# Altium footprint library con-pc104.PCBLIB: 5 footprints
Each footprint in its own frame and in the unit in brackets; x right, y up, seen from the top. Pads: shape width x height; smd on the part's side, far side on the other; paste and mask are expansions set on the pad; w line width, h text height; cw(c..) or ccw(c..) is an arc to the next point about the centre after c.
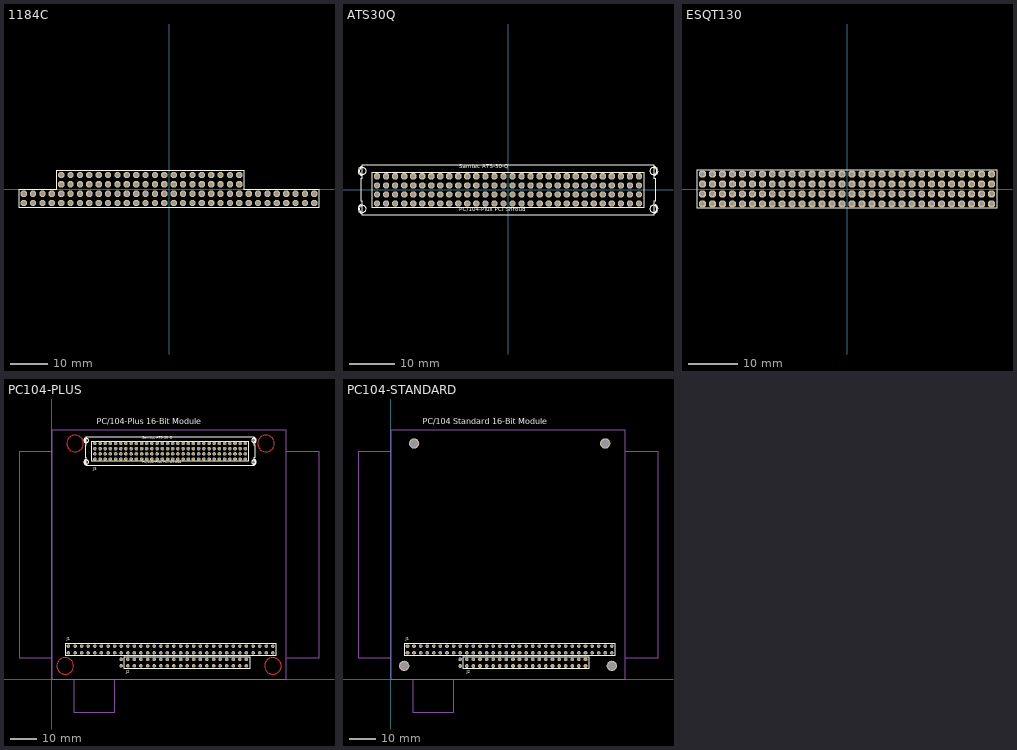
[diagram p0: the footprints below, top view; thin cyan lines are the x and y axes]

## 1184C [mil]
pads (104):
  oct 66x66 hole 44: A1(-1550,-50) A2(-1450,-50) A3(-1350,-50) A4(-1250,-50) A5(-1150,-50) A6(-1050,-50) A7(-950,-50) A8(-850,-50) A9(-750,-50) A10(-650,-50) A11(-550,-50) A12(-450,-50) A13(-350,-50) A14(-250,-50) A15(-150,-50) A16(-50,-50) A17(50,-50) A18(150,-50) A19(250,-50) A20(350,-50) A21(450,-50) A22(550,-50) A23(650,-50) A24(750,-50) A25(850,-50) A26(950,-50) A27(1050,-50) A28(1150,-50) A29(1250,-50) A30(1350,-50) A31(1450,-50) A32(1550,-50) A33(-1150,150) A34(-1050,150) A35(-950,150) A36(-850,150) A37(-750,150) A38(-650,150) A39(-550,150) A40(-450,150) A41(-350,150) A42(-250,150) A43(-150,150) A44(-50,150) A45(50,150) A46(150,150) A47(250,150) A48(350,150) A49(450,150) A50(550,150) A51(650,150) A52(750,150) B1(-1550,-150) B2(-1450,-150) B3(-1350,-150) B4(-1250,-150) B5(-1150,-150) B6(-1050,-150) B7(-950,-150) B8(-850,-150) B9(-750,-150) B10(-650,-150) B11(-550,-150) B12(-450,-150) B13(-350,-150) B14(-250,-150) B15(-150,-150) B16(-50,-150) B17(50,-150) B18(150,-150) B19(250,-150) B20(350,-150) B21(450,-150) B22(550,-150) B23(650,-150) B24(750,-150) B25(850,-150) B26(950,-150) B27(1050,-150) B28(1150,-150) B29(1250,-150) B30(1350,-150) B31(1450,-150) B32(1550,-150) B33(-1150,50) B34(-1050,50) B35(-950,50) B36(-850,50) B37(-750,50) B38(-650,50) B39(-550,50) B40(-450,50) B41(-350,50) B42(-250,50) B43(-150,50) B44(-50,50) B45(50,50) B46(150,50) B47(250,50) B48(350,50) B49(450,50) B50(550,50) B51(650,50) B52(750,50)
Top Overlay:
  lines w10: -1600,-200 1600,-200 1600,0 800,0 800,200 -1200,200 -1200,0 -1600,0 -1600,-200

## ATS30Q [mil]
pads (120):
  oct 55x55 hole 35.43: A1(-1141.73,-118.11) A2(-1062.99,-118.11) A3(-984.25,-118.11) A4(-905.51,-118.11) A5(-826.77,-118.11) A6(-748.03,-118.11) A7(-669.29,-118.11) A8(-590.55,-118.11) A9(-511.81,-118.11) A10(-433.07,-118.11) A11(-354.33,-118.11) A12(-275.59,-118.11) A13(-196.85,-118.11) A14(-118.11,-118.11) A15(-39.37,-118.11) A16(39.37,-118.11) A17(118.11,-118.11) A18(196.85,-118.11) A19(275.59,-118.11) A20(354.33,-118.11) A21(433.07,-118.11) A22(511.81,-118.11) A23(590.55,-118.11) A24(669.29,-118.11) A25(748.03,-118.11) A26(826.77,-118.11) A27(905.51,-118.11) A28(984.25,-118.11) A29(1062.99,-118.11) A30(1141.73,-118.11) B1(-1141.73,-39.37) B2(-1062.99,-39.37) B3(-984.25,-39.37) B4(-905.51,-39.37) B5(-826.77,-39.37) B6(-748.03,-39.37) B7(-669.29,-39.37) B8(-590.55,-39.37) B9(-511.81,-39.37) B10(-433.07,-39.37) B11(-354.33,-39.37) B12(-275.59,-39.37) B13(-196.85,-39.37) B14(-118.11,-39.37) B15(-39.37,-39.37) B16(39.37,-39.37) B17(118.11,-39.37) B18(196.85,-39.37) B19(275.59,-39.37) B20(354.33,-39.37) B21(433.07,-39.37) B22(511.81,-39.37) B23(590.55,-39.37) B24(669.29,-39.37) B25(748.03,-39.37) B26(826.77,-39.37) B27(905.51,-39.37) B28(984.25,-39.37) B29(1062.99,-39.37) B30(1141.73,-39.37) C1(-1141.73,39.37) C2(-1062.99,39.37) C3(-984.25,39.37) C4(-905.51,39.37) C5(-826.77,39.37) C6(-748.03,39.37) C7(-669.29,39.37) C8(-590.55,39.37) C9(-511.81,39.37) C10(-433.07,39.37) C11(-354.33,39.37) C12(-275.59,39.37) C13(-196.85,39.37) C14(-118.11,39.37) C15(-39.37,39.37) C16(39.37,39.37) C17(118.11,39.37) C18(196.85,39.37) C19(275.59,39.37) C20(354.33,39.37) C21(433.07,39.37) C22(511.81,39.37) C23(590.55,39.37) C24(669.29,39.37) C25(748.03,39.37) C26(826.77,39.37) C27(905.51,39.37) C28(984.25,39.37) C29(1062.99,39.37) C30(1141.73,39.37) D1(-1141.73,118.11) D2(-1062.99,118.11) D3(-984.25,118.11) D4(-905.51,118.11) D5(-826.77,118.11) D6(-748.03,118.11) D7(-669.29,118.11) D8(-590.55,118.11) D9(-511.81,118.11) D10(-433.07,118.11) D11(-354.33,118.11) D12(-275.59,118.11) D13(-196.85,118.11) D14(-118.11,118.11) D15(-39.37,118.11) D16(39.37,118.11) D17(118.11,118.11) D18(196.85,118.11) D19(275.59,118.11) D20(354.33,118.11) D21(433.07,118.11) D22(511.81,118.11) D23(590.55,118.11) D24(669.29,118.11) D25(748.03,118.11) D26(826.77,118.11) D27(905.51,118.11) D28(984.25,118.11) D29(1062.99,118.11) D30(1141.73,118.11)
Top Overlay:
  circle w8: c1267,165 r30
  circle w8: c1267,-165 r30
  circle w8: c-1267,-165 r30
  circle w8: c-1267,165 r30
  lines w8: -1270,-205 cw(c-1267.5,-165) -1270,-125 ; -1270,125 cw(c-1267.5,165) -1270,205 ; 1270,-205 ccw(c1267.5,-165) 1270,-125 ; 1270,125 ccw(c1267.5,165) 1270,205 ; -1280,-100 -1268.78,-100 -1268.78,-220.47 1268.78,-220.47 1268.78,-100 1285,-100 1285,100 1268.78,100 1268.78,220.47 -1268.78,220.47 -1268.78,100 -1280,100 -1280,-100 ; -1185.04,-153.54 1185.04,-153.54 1185.04,153.54 -1185.04,153.54 -1185.04,-153.54
  text "Samtec ATS-30-Q" at -425,175 h62
  text "PC/104-Plus PCI Shroud" at -425,-200 h62

## ESQT130 [mil]
pads (120):
  oct 55x55 hole 35.43: A1(-1141.73,-118.11) A2(-1062.99,-118.11) A3(-984.25,-118.11) A4(-905.51,-118.11) A5(-826.77,-118.11) A6(-748.03,-118.11) A7(-669.29,-118.11) A8(-590.55,-118.11) A9(-511.81,-118.11) A10(-433.07,-118.11) A11(-354.33,-118.11) A12(-275.59,-118.11) A13(-196.85,-118.11) A14(-118.11,-118.11) A15(-39.37,-118.11) A16(39.37,-118.11) A17(118.11,-118.11) A18(196.85,-118.11) A19(275.59,-118.11) A20(354.33,-118.11) A21(433.07,-118.11) A22(511.81,-118.11) A23(590.55,-118.11) A24(669.29,-118.11) A25(748.03,-118.11) A26(826.77,-118.11) A27(905.51,-118.11) A28(984.25,-118.11) A29(1062.99,-118.11) A30(1141.73,-118.11) B1(-1141.73,-39.37) B2(-1062.99,-39.37) B3(-984.25,-39.37) B4(-905.51,-39.37) B5(-826.77,-39.37) B6(-748.03,-39.37) B7(-669.29,-39.37) B8(-590.55,-39.37) B9(-511.81,-39.37) B10(-433.07,-39.37) B11(-354.33,-39.37) B12(-275.59,-39.37) B13(-196.85,-39.37) B14(-118.11,-39.37) B15(-39.37,-39.37) B16(39.37,-39.37) B17(118.11,-39.37) B18(196.85,-39.37) B19(275.59,-39.37) B20(354.33,-39.37) B21(433.07,-39.37) B22(511.81,-39.37) B23(590.55,-39.37) B24(669.29,-39.37) B25(748.03,-39.37) B26(826.77,-39.37) B27(905.51,-39.37) B28(984.25,-39.37) B29(1062.99,-39.37) B30(1141.73,-39.37) C1(-1141.73,39.37) C2(-1062.99,39.37) C3(-984.25,39.37) C4(-905.51,39.37) C5(-826.77,39.37) C6(-748.03,39.37) C7(-669.29,39.37) C8(-590.55,39.37) C9(-511.81,39.37) C10(-433.07,39.37) C11(-354.33,39.37) C12(-275.59,39.37) C13(-196.85,39.37) C14(-118.11,39.37) C15(-39.37,39.37) C16(39.37,39.37) C17(118.11,39.37) C18(196.85,39.37) C19(275.59,39.37) C20(354.33,39.37) C21(433.07,39.37) C22(511.81,39.37) C23(590.55,39.37) C24(669.29,39.37) C25(748.03,39.37) C26(826.77,39.37) C27(905.51,39.37) C28(984.25,39.37) C29(1062.99,39.37) C30(1141.73,39.37) D1(-1141.73,118.11) D2(-1062.99,118.11) D3(-984.25,118.11) D4(-905.51,118.11) D5(-826.77,118.11) D6(-748.03,118.11) D7(-669.29,118.11) D8(-590.55,118.11) D9(-511.81,118.11) D10(-433.07,118.11) D11(-354.33,118.11) D12(-275.59,118.11) D13(-196.85,118.11) D14(-118.11,118.11) D15(-39.37,118.11) D16(39.37,118.11) D17(118.11,118.11) D18(196.85,118.11) D19(275.59,118.11) D20(354.33,118.11) D21(433.07,118.11) D22(511.81,118.11) D23(590.55,118.11) D24(669.29,118.11) D25(748.03,118.11) D26(826.77,118.11) D27(905.51,118.11) D28(984.25,118.11) D29(1062.99,118.11) D30(1141.73,118.11)
Top Overlay:
  lines w8: -1185.04,-153.54 1185.04,-153.54 1185.04,153.54 -1185.04,153.54 -1185.04,-153.54
Mechanical 16:
  text "Samtec ESQT-130-02-G-Q-368" at -425,-300 h62
  text "Samtec ESQT-130-03-M-Q-368" at -425,-250 h62
  text "PC/104-Plus PCI Connector" at -425,-200 h62

## PC104-PLUS [mm]
pads (224):
  oct 1.35x1.35 hole 0.9: A1(6.35,10.16) A2(8.89,10.16) A3(11.43,10.16) A4(13.97,10.16) A5(16.51,10.16) A6(19.05,10.16) A7(21.59,10.16) A8(24.13,10.16) A9(26.67,10.16) A10(29.21,10.16) A11(31.75,10.16) A12(34.29,10.16) A13(36.83,10.16) A14(39.37,10.16) A15(41.91,10.16) A16(44.45,10.16) A17(46.99,10.16) A18(49.53,10.16) A19(52.07,10.16) A20(54.61,10.16) A21(57.15,10.16) A22(59.69,10.16) A23(62.23,10.16) A24(64.77,10.16) A25(67.31,10.16) A26(69.85,10.16) A27(72.39,10.16) A28(74.93,10.16) A29(77.47,10.16) A30(80.01,10.16) A31(82.55,10.16) A32(85.09,10.16) B1(6.35,12.7) B2(8.89,12.7) B3(11.43,12.7) B4(13.97,12.7) B5(16.51,12.7) B6(19.05,12.7) B7(21.59,12.7) B8(24.13,12.7) B9(26.67,12.7) B10(29.21,12.7) B11(31.75,12.7) B12(34.29,12.7) B13(36.83,12.7) B14(39.37,12.7) B15(41.91,12.7) B16(44.45,12.7) B17(46.99,12.7) B18(49.53,12.7) B19(52.07,12.7) B20(54.61,12.7) B21(57.15,12.7) B22(59.69,12.7) B23(62.23,12.7) B24(64.77,12.7) B25(67.31,12.7) B26(69.85,12.7) B27(72.39,12.7) B28(74.93,12.7) B29(77.47,12.7) B30(80.01,12.7) B31(82.55,12.7) B32(85.09,12.7) C0(26.67,7.62) C1(29.21,7.62) C2(31.75,7.62) C3(34.29,7.62) C4(36.83,7.62) C5(39.37,7.62) C6(41.91,7.62) C7(44.45,7.62) C8(46.99,7.62) C9(49.53,7.62) C10(52.07,7.62) C11(54.61,7.62) C12(57.15,7.62) C13(59.69,7.62) C14(62.23,7.62) C15(64.77,7.62) C16(67.31,7.62) C17(69.85,7.62) C18(72.39,7.62) C19(74.93,7.62) D0(26.67,5.08) D1(29.21,5.08) D2(31.75,5.08) D3(34.29,5.08) D4(36.83,5.08) D5(39.37,5.08) D6(41.91,5.08) D7(44.45,5.08) D8(46.99,5.08) D9(49.53,5.08) D10(52.07,5.08) D11(54.61,5.08) D12(57.15,5.08) D13(59.69,5.08) D14(62.23,5.08) D15(64.77,5.08) D16(67.31,5.08) D17(69.85,5.08) D18(72.39,5.08) D19(74.93,5.08) J3-A1(16.51,84.805) J3-A2(18.51,84.805) J3-A3(20.51,84.805) J3-A4(22.51,84.805) J3-A5(24.51,84.805) J3-A6(26.51,84.805) J3-A7(28.51,84.805) J3-A8(30.51,84.805) J3-A9(32.51,84.805) J3-A10(34.51,84.805) J3-A11(36.51,84.805) J3-A12(38.51,84.805) J3-A13(40.51,84.805) J3-A14(42.51,84.805) J3-A15(44.51,84.805) J3-A16(46.51,84.805) J3-A17(48.51,84.805) J3-A18(50.51,84.805) J3-A19(52.51,84.805) J3-A20(54.51,84.805) J3-A21(56.51,84.805) J3-A22(58.51,84.805) J3-A23(60.51,84.805) J3-A24(62.51,84.805) J3-A25(64.51,84.805) J3-A26(66.51,84.805) J3-A27(68.51,84.805) J3-A28(70.51,84.805) J3-A29(72.51,84.805) J3-A30(74.51,84.805) J3-B1(16.51,86.805) J3-B2(18.51,86.805) J3-B3(20.51,86.805) J3-B4(22.51,86.805) J3-B5(24.51,86.805) J3-B6(26.51,86.805) J3-B7(28.51,86.805) J3-B8(30.51,86.805) J3-B9(32.51,86.805) J3-B10(34.51,86.805) J3-B11(36.51,86.805) J3-B12(38.51,86.805) J3-B13(40.51,86.805) J3-B14(42.51,86.805) J3-B15(44.51,86.805) J3-B16(46.51,86.805) J3-B17(48.51,86.805) J3-B18(50.51,86.805) J3-B19(52.51,86.805) J3-B20(54.51,86.805) J3-B21(56.51,86.805) J3-B22(58.51,86.805) J3-B23(60.51,86.805) J3-B24(62.51,86.805) J3-B25(64.51,86.805) J3-B26(66.51,86.805) J3-B27(68.51,86.805) J3-B28(70.51,86.805) J3-B29(72.51,86.805) J3-B30(74.51,86.805) J3-C1(16.51,88.805) J3-C2(18.51,88.805) J3-C3(20.51,88.805) J3-C4(22.51,88.805) J3-C5(24.51,88.805) J3-C6(26.51,88.805) J3-C7(28.51,88.805) J3-C8(30.51,88.805) J3-C9(32.51,88.805) J3-C10(34.51,88.805) J3-C11(36.51,88.805) J3-C12(38.51,88.805) J3-C13(40.51,88.805) J3-C14(42.51,88.805) J3-C15(44.51,88.805) J3-C16(46.51,88.805) J3-C17(48.51,88.805) J3-C18(50.51,88.805) J3-C19(52.51,88.805) J3-C20(54.51,88.805) J3-C21(56.51,88.805) J3-C22(58.51,88.805) J3-C23(60.51,88.805) J3-C24(62.51,88.805) J3-C25(64.51,88.805) J3-C26(66.51,88.805) J3-C27(68.51,88.805) J3-C28(70.51,88.805) J3-C29(72.51,88.805) J3-C30(74.51,88.805) J3-D1(16.51,90.805) J3-D2(18.51,90.805) J3-D3(20.51,90.805) J3-D4(22.51,90.805) J3-D5(24.51,90.805) J3-D6(26.51,90.805) J3-D7(28.51,90.805) J3-D8(30.51,90.805) J3-D9(32.51,90.805) J3-D10(34.51,90.805) J3-D11(36.51,90.805) J3-D12(38.51,90.805) J3-D13(40.51,90.805) J3-D14(42.51,90.805) J3-D15(44.51,90.805) J3-D16(46.51,90.805) J3-D17(48.51,90.805) J3-D18(50.51,90.805) J3-D19(52.51,90.805) J3-D20(54.51,90.805) J3-D21(56.51,90.805) J3-D22(58.51,90.805) J3-D23(60.51,90.805) J3-D24(62.51,90.805) J3-D25(64.51,90.805) J3-D26(66.51,90.805) J3-D27(68.51,90.805) J3-D28(70.51,90.805) J3-D29(72.51,90.805) J3-D30(74.51,90.805)
Top Layer:
  circle w0: c8.9,90.8 r3.2
  circle w0: c5.1,5.1 r3.2
  circle w0: c85.1,5.1 r3.2
  circle w0: c82.5,90.8 r3.2
Top Overlay:
  circle w0.203: c77.692,91.996 r0.762
  circle w0.203: c77.692,83.614 r0.762
  circle w0.203: c13.328,83.614 r0.762
  circle w0.203: c13.328,91.996 r0.762
  lines w0.203: 13.252,82.598 cw(c13.315,83.614) 13.252,84.63 ; 13.252,90.98 cw(c13.315,91.996) 13.252,93.012 ; 77.768,82.598 ccw(c77.704,83.614) 77.768,84.63 ; 77.768,90.98 ccw(c77.704,91.996) 77.768,93.012 ; 5.3,9.1 86.27,9.1 86.27,13.8 5.3,13.8 5.3,9.1 ; 12.998,85.265 13.283,85.265 13.283,82.205 77.737,82.205 77.737,85.265 78.149,85.265 78.149,90.345 77.737,90.345 77.737,93.405 13.283,93.405 13.283,90.345 12.998,90.345 12.998,85.265 ; 15.41,83.905 75.61,83.905 75.61,91.705 15.41,91.705 15.41,83.905 ; 27.8,4 76.27,4 76.27,8.7 27.8,8.7 27.8,4
  text "Samtec ATS-30-Q" at 34.715,92.25 h1.57
  text "PC/104-Plus PCI Shroud" at 34.715,82.725 h1.57
  text "PC/104-Plus 16-Bit Module" at 17.34,97.5 h3.94
  text "J3" at 15.875,80.01 h1.97
  text "J1" at 5.715,14.605 h1.97
  text "J2" at 28.575,1.905 h1.97
Mechanical 1:
  lines w0: 0,0 90.2,0 90.2,95.9 0,95.9 0,0
Mechanical 16:
  lines w0.051: 0,8.255 -12.7,8.255 -12.7,87.63 0,87.63 ; 8.3,0 8.3,-12.7 24.1,-12.7 24.1,0 ; 90.17,87.63 102.87,87.63 102.87,8.255 90.221,8.255

## PC104-STANDARD [mil]
pads (108):
  oct 55x55 hole 35.43: A1(250,400) A2(350,400) A3(450,400) A4(550,400) A5(650,400) A6(750,400) A7(850,400) A8(950,400) A9(1050,400) A10(1150,400) A11(1250,400) A12(1350,400) A13(1450,400) A14(1550,400) A15(1650,400) A16(1750,400) A17(1850,400) A18(1950,400) A19(2050,400) A20(2150,400) A21(2250,400) A22(2350,400) A23(2450,400) A24(2550,400) A25(2650,400) A26(2750,400) A27(2850,400) A28(2950,400) A29(3050,400) A30(3150,400) A31(3250,400) A32(3350,400) B1(250,500) B2(350,500) B3(450,500) B4(550,500) B5(650,500) B6(750,500) B7(850,500) B8(950,500) B9(1050,500) B10(1150,500) B11(1250,500) B12(1350,500) B13(1450,500) B14(1550,500) B15(1650,500) B16(1750,500) B17(1850,500) B18(1950,500) B19(2050,500) B20(2150,500) B21(2250,500) B22(2350,500) B23(2450,500) B24(2550,500) B25(2650,500) B26(2750,500) B27(2850,500) B28(2950,500) B29(3050,500) B30(3150,500) B31(3250,500) B32(3350,500) C0(1050,300) C1(1150,300) C2(1250,300) C3(1350,300) C4(1450,300) C5(1550,300) C6(1650,300) C7(1750,300) C8(1850,300) C9(1950,300) C10(2050,300) C11(2150,300) C12(2250,300) C13(2350,300) C14(2450,300) C15(2550,300) C16(2650,300) C17(2750,300) C18(2850,300) C19(2950,300) D0(1050,200) D1(1150,200) D2(1250,200) D3(1350,200) D4(1450,200) D5(1550,200) D6(1650,200) D7(1750,200) D8(1850,200) D9(1950,200) D10(2050,200) D11(2150,200) D12(2250,200) D13(2350,200) D14(2450,200) D15(2550,200) D16(2650,200) D17(2750,200) D18(2850,200) D19(2950,200)
  round 157.48 hole 125.98: GND@1(350.39,3574.8) GND@2(3248.03,3574.8) GND@3(200.79,200.79) GND@4(3350.39,200.79)
Top Overlay:
  lines w8: 208.66,358.27 3396.46,358.27 3396.46,543.31 208.66,543.31 208.66,358.27 ; 1094.49,157.48 3002.76,157.48 3002.76,342.52 1094.49,342.52 1094.49,157.48
  text "PC/104 Standard 16-Bit Module" at 482.68,3838.58 h155
  text "J1" at 225,575 h77.5
  text "J2" at 1150,75 h77.5
Mechanical 1:
  lines w0: 0,0 3551.18,0 3551.18,3775.59 0,3775.59 0,0
Mechanical 16:
  lines w2: 0,325 -500,325 -500,3450 0,3450 ; 326.77,0 326.77,-500 948.82,-500 948.82,0 ; 3550,3450 4050,3450 4050,325 3552,325